# EAGLE library part PVA2_DPDT (library ElectricNoodleBox)
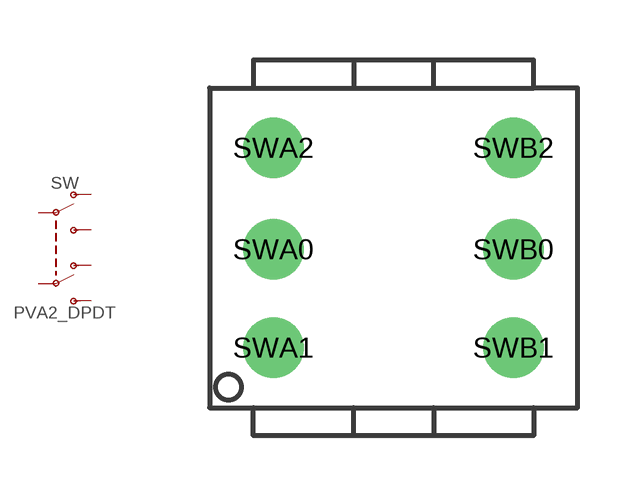
[diagram p34: symbol with the pads of PVA2_PUSHBUTTON; footprint PVA2_PUSHBUTTON]

Designator prefix SW

## PVA2_DPDT  [PVA2_PUSHBUTTON]
SWA0  SW1_2  pas
SWA1  SW1_1  pas
SWA2  SW1_3  pas
SWB0  SW2_2  pas
SWB1  SW2_1  pas
SWB2  SW2_3  pas

## Footprint PVA2_PUSHBUTTON (pad centres in mm)
drill 1: SWA0 -3,-0.04; SWA1 -3,-2.5; SWA2 -3,2.5; SWB0 3,-0.04; SWB1 3,-2.5; SWB2 3,2.5